# Altium schematic symbol library ADXL203CE.SchLib: 1 symbol
Pins are listed as number, name and electrical type; pins without a type are passive.

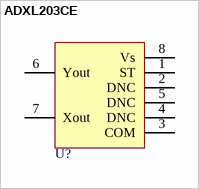
[diagram p0: symbol ADXL203CE]

## ADXL203CE
designator U?
pins: 1 ST, 2 DNC, 3 COM, 4 DNC, 5 DNC, 6 Yout, 7 Xout, 8 Vs